# Altium schematic symbol library TI_National_Semiconductor_LM555CM.SchLib: 1 symbol
Pins are listed as number, name and electrical type; pins without a type are passive.

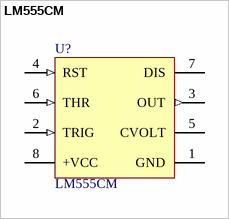
[diagram p0: symbol LM555CM]

## LM555CM
designator U?
Timer, 8-pin Narrow SOIC; Manufacturer: National Semiconductor; PackageTopMarking: NSZXTT*LM*555CM; CompType: Analog IC; PowerWise: N; ComponentLink1Description: LM555 Datasheet; ComponentLink2Description: LM555 Web Page; DatasheetVersion: Jul-2006; ComponentLink3Description: M08A Package Page; ComponentLink3URL: http://www.national.com/packaging/folders/m08a.html; ComponentLink1URL: http://www.national.com/ds/LM/LM555.pdf; PinCount: 8; Code_JEDEC: MS-012-AA; RevisionNote: Component URLs added; Code_IPC: SOIC127P600-8; PackageVersion: revM, May-2009; PackageDescription: SOIC Narrow, 4.9 x 3.9 x 1.45mm, 8 Lead, 1.27mm Pitch; ComponentLink2URL: http://www.national.com/pf/LM/LM555.html; RoHS: N; PackageReference: M08A; PartNumber: LM555CM
footprint M08A_M
footprint M08A_L
footprint M08A_N
pins: 1 GND (power), 2 TRIG (in), 3 OUT (out), 4 RST (in), 5 CVOLT, 6 THR (in), 7 DIS (oc), 8 +VCC (power)